# Altium footprint library 2020-10-26_19-15-19.PcbLib: 4 footprints
Each footprint in its own frame and in the unit in brackets; x right, y up, seen from the top. Pads: shape width x height; smd on the part's side, far side on the other; paste and mask are expansions set on the pad; w line width, h text height; cw(c..) or ccw(c..) is an arc to the next point about the centre after c.
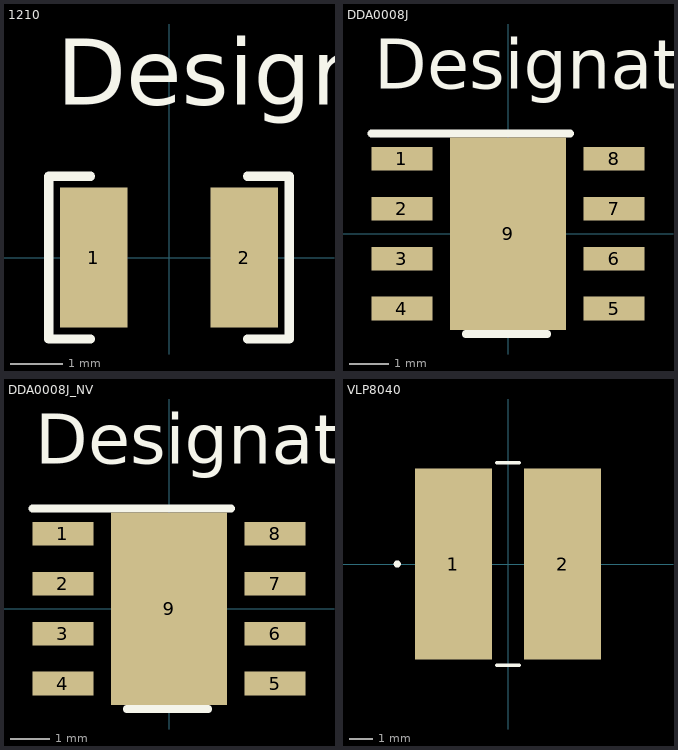
[diagram p0: the footprints below, top view; thin cyan lines are the x and y axes]

## 1210 [mm]
pads (2):
  rect 1.3x2.7 smd paste+0 mask+0.051: 1(-1.45,0) 2(1.45,0)
Top Overlay:
  lines w0.178: -1.511,-1.568 -2.316,-1.568 -2.316,1.568 -1.511,1.568 ; 1.511,-1.568 2.316,-1.568 2.316,1.568 1.511,1.568
  text "Designator85" at -2.159,2.938 h1.27
3D body: height 0.25, standoff 0, extent 0,0 0.254,0.254

## DDA0008J [mm]
pads (9):
  rect 1.55x0.6 smd paste+0 mask+0.051: 1(-2.7,1.905) 2(-2.7,0.635) 3(-2.7,-0.635) 4(-2.7,-1.905) 5(2.7,-1.905) 6(2.7,-0.635) 7(2.7,0.635) 8(2.7,1.905)
  rect 2.95x4.9 smd paste-2.437 mask-2.438: 9(0,0)
Top Overlay:
  lines w0.2: -3.475,2.55 1.579,2.55 ; -1.075,-2.55 1,-2.55
  text "Designator9" at -3.404,3.683 h1.27
Top Paste:
  region: -1.3,1.55 -1.3,-1.55 1.3,-1.55 1.3,1.55
Top Solder:
  region: -1.3,1.55 -1.3,-1.55 1.3,-1.55 1.3,1.55
3D body: height 0.25, standoff 0, extent 0,0 0.254,0.254

## DDA0008J_NV [mm]
pads (9):
  rect 1.55x0.6 smd paste+0 mask+0.051: 1(-2.7,1.905) 2(-2.7,0.635) 3(-2.7,-0.635) 4(-2.7,-1.905) 5(2.7,-1.905) 6(2.7,-0.635) 7(2.7,0.635) 8(2.7,1.905)
  rect 2.95x4.9 smd paste-2.437 mask-2.438: 9(0,0)
Top Overlay:
  lines w0.2: -3.475,2.55 1.579,2.55 ; -1.075,-2.55 1,-2.55
  text "Designator9" at -3.404,3.683 h1.27
Top Paste:
  region: -1.3,1.55 -1.3,-1.55 1.3,-1.55 1.3,1.55
Top Solder:
  region: -1.3,1.55 -1.3,-1.55 1.3,-1.55 1.3,1.55
3D body: height 0.25, standoff 0, extent 0,0 0.254,0.254

## VLP8040 [mil]
pads (2):
  rect 130x323 smd: 1(-92.5,0) 2(92.5,0)
Top Overlay:
  circle w6: c-187.5,0 r3
  lines w6: -19.04,-171.5 19.04,-171.5 ; -19.04,171.5 19.04,171.5
3D body "VLP8040.stp": height 157, standoff 0, extent -169.5,-171.61 169.5,171.61